# EAGLE library part 70 (library display-lcd-lxd)
6 Numerical Digit, .70" (17.78) Direct Drive Display Additional Descriptors: none
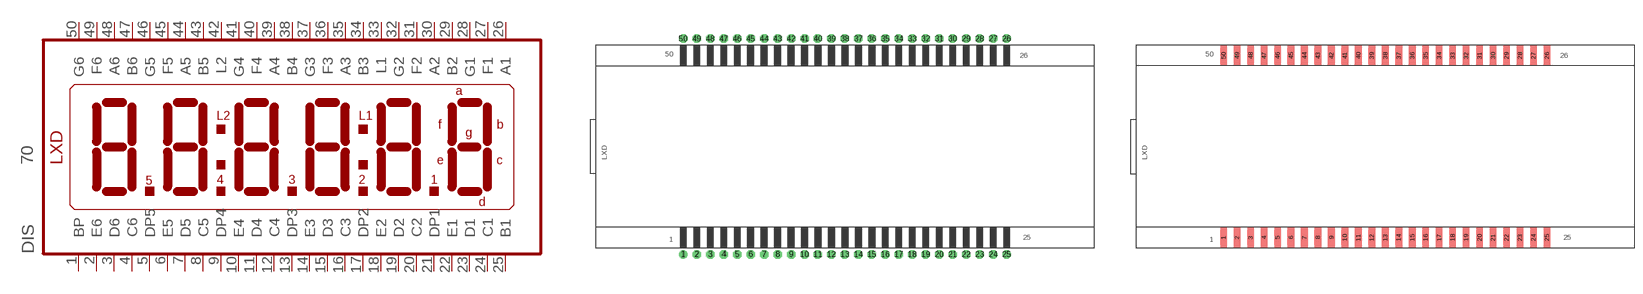
[diagram p2: symbol with the pads of 70-D; footprints 70-D, 70-E]

Designator prefix DIS

## 70DIP  [70-D]
1  BP  pas
2  E6  pas
3  D6  pas
4  C6  pas
5  DP5  pas
6  E5  pas
7  D5  pas
8  C5  pas
9  DP4  pas
10  E4  pas
11  D4  pas
12  C4  pas
13  DP3  pas
14  E3  pas
15  D3  pas
16  C3  pas
17  DP2  pas
18  E2  pas
19  D2  pas
20  C2  pas
21  DP1  pas
22  E1  pas
23  D1  pas
24  C1  pas
25  B1  pas
26  A1  pas
27  F1  pas
28  G1  pas
29  B2  pas
30  A2  pas
31  F2  pas
32  G2  pas
33  L1  pas
34  B3  pas
35  A3  pas
36  F3  pas
37  G3  pas
38  B4  pas
39  A4  pas
40  F4  pas
41  G4  pas
42  L2  pas
43  B5  pas
44  A5  pas
45  F5  pas
46  G5  pas
47  B6  pas
48  A6  pas
49  F6  pas
50  G6  pas

## 70SMD  [70-E]
Pads as for 70-D

## Footprint 70-D (pad centres in mm)
Glass Size: 3.70" x 1.50" &nbsp &nbsp &nbsp &nbsp &nbsp &nbsp &nbsp &nbsp &nbsp (93.98 x 38.10)
drill 0.813 pad 1.6: 1 -30.48,-20.32
drill 0.813 pad 1.6 octagon: 2 -27.94,-20.32; 3 -25.4,-20.32; 4 -22.86,-20.32; 5 -20.32,-20.32; 6 -17.78,-20.32; 7 -15.24,-20.32; 8 -12.7,-20.32; 9 -10.16,-20.32; 10 -7.62,-20.32; 11 -5.08,-20.32; 12 -2.54,-20.32; 13 0,-20.32; 14 2.54,-20.32; 15 5.08,-20.32; 16 7.62,-20.32; 17 10.16,-20.32; 18 12.7,-20.32; 19 15.24,-20.32; 20 17.78,-20.32; 21 20.32,-20.32; 22 22.86,-20.32; 23 25.4,-20.32; 24 27.94,-20.32; 25 30.48,-20.32; 26 30.48,20.32; 27 27.94,20.32; 28 25.4,20.32; 29 22.86,20.32; 30 20.32,20.32; 31 17.78,20.32; 32 15.24,20.32; 33 12.7,20.32; 34 10.16,20.32; 35 7.62,20.32; 36 5.08,20.32; 37 2.54,20.32; 38 0,20.32; 39 -2.54,20.32; 40 -5.08,20.32; 41 -7.62,20.32; 42 -10.16,20.32; 43 -12.7,20.32; 44 -15.24,20.32; 45 -17.78,20.32; 46 -20.32,20.32; 47 -22.86,20.32; 48 -25.4,20.32; 49 -27.94,20.32; 50 -30.48,20.32

## Footprint 70-E (pad centres in mm)
Glass Size: 3.70" x 1.50" &nbsp &nbsp &nbsp &nbsp &nbsp &nbsp &nbsp &nbsp &nbsp (93.98 x 38.10)
smd 1.27 x 3.81: 1 -30.48,-17.145; 2 -27.94,-17.145; 3 -25.4,-17.145; 4 -22.86,-17.145; 5 -20.32,-17.145; 6 -17.78,-17.145; 7 -15.24,-17.145; 8 -12.7,-17.145; 9 -10.16,-17.145; 10 -7.62,-17.145; 11 -5.08,-17.145; 12 -2.54,-17.145; 13 0,-17.145; 14 2.54,-17.145; 15 5.08,-17.145; 16 7.62,-17.145; 17 10.16,-17.145; 18 12.7,-17.145; 19 15.24,-17.145; 20 17.78,-17.145; 21 20.32,-17.145; 22 22.86,-17.145; 23 25.4,-17.145; 24 27.94,-17.145; 25 30.48,-17.145; 26 30.48,17.145; 27 27.94,17.145; 28 25.4,17.145; 29 22.86,17.145; 30 20.32,17.145; 31 17.78,17.145; 32 15.24,17.145; 33 12.7,17.145; 34 10.16,17.145; 35 7.62,17.145; 36 5.08,17.145; 37 2.54,17.145; 38 0,17.145; 39 -2.54,17.145; 40 -5.08,17.145; 41 -7.62,17.145; 42 -10.16,17.145; 43 -12.7,17.145; 44 -15.24,17.145; 45 -17.78,17.145; 46 -20.32,17.145; 47 -22.86,17.145; 48 -25.4,17.145; 49 -27.94,17.145; 50 -30.48,17.145